# EAGLE library part _TRAFO_LAN_2CH_(ALANS100X1-1E10ET) (library SamacSys_Parts)
Audio Transformers / Signal Transformers 10/100BASE-TX 12 pin 0C +70C Source: Datasheet <https://www.mouser.se/datasheet/2/3/ALANS100X1-1605728.pdf>
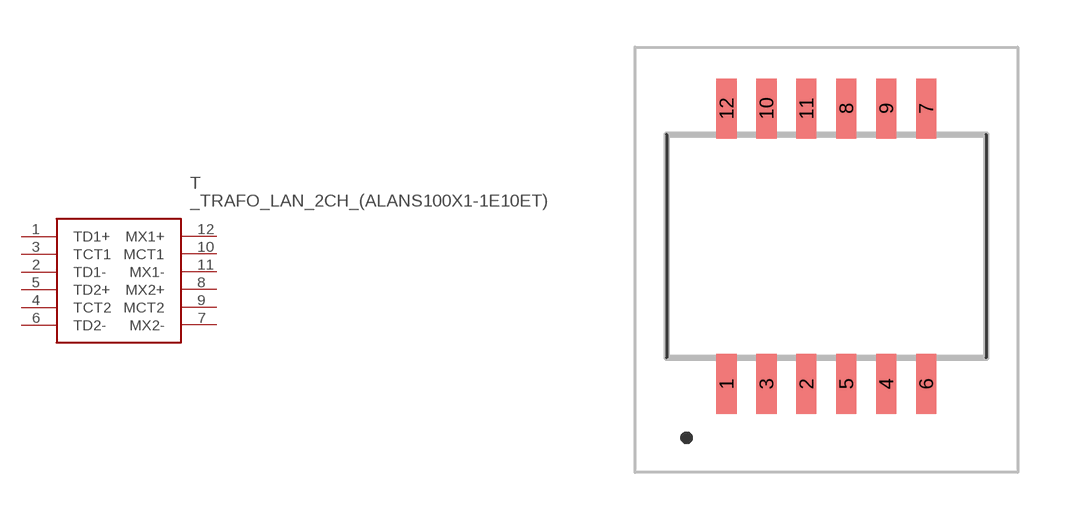
[diagram p2: symbol with the pads of ALANS100X1-1E10ET; footprint ALANS100X1-1E10ET]

Designator prefix T

## _TRAFO_LAN_2CH_(ALANS100X1-1E10ET) (DESCRIPTION: Audio Transformers / Signal Transformers 10/100BASE-TX 12 pin -40C +85C; HEIGHT: 2.4mm; MANUFACTURER_NAME: ABRACON; MANUFACTURER_PART_NUMBER: ALANL100X1-DE12DT; MOUSER_PART_NUMBER: 815-ALANL100X1DE12DT; MOUSER_PRICE-STOCK: https://www.mouser.co.uk/ProductDetail/ABRACON/ALANL100X1-DE12DT?qs=BJlw7L4Cy79emB2iS%2FU5sA%3D%3D)  [ALANS100X1-1E10ET]
1  TD1+
2  TD1-
3  TCT1
4  TCT2
5  TD2+
6  TD2-
7  MX2-
8  MX2+
9  MCT2
10  MCT1
11  MX1-
12  MX1+

## Footprint ALANS100X1-1E10ET (pad centres in mm)
ALANL100X1-DE12DT-2
smd 0.64 x 1.905: 1 -3.175,-4.383; 2 -0.635,-4.383; 3 -1.905,-4.383; 4 1.905,-4.383; 5 0.635,-4.383; 6 3.175,-4.383; 7 3.175,4.383; 8 0.635,4.383; 9 1.905,4.383; 10 -1.905,4.383; 11 -0.635,4.383; 12 -3.175,4.383